# Altium footprint library TO-92_0.PcbLib: 1 footprints
Each footprint in its own frame and in the unit in brackets; x right, y up, seen from the top. Pads: shape width x height; smd on the part's side, far side on the other; paste and mask are expansions set on the pad; w line width, h text height; cw(c..) or ccw(c..) is an arc to the next point about the centre after c.
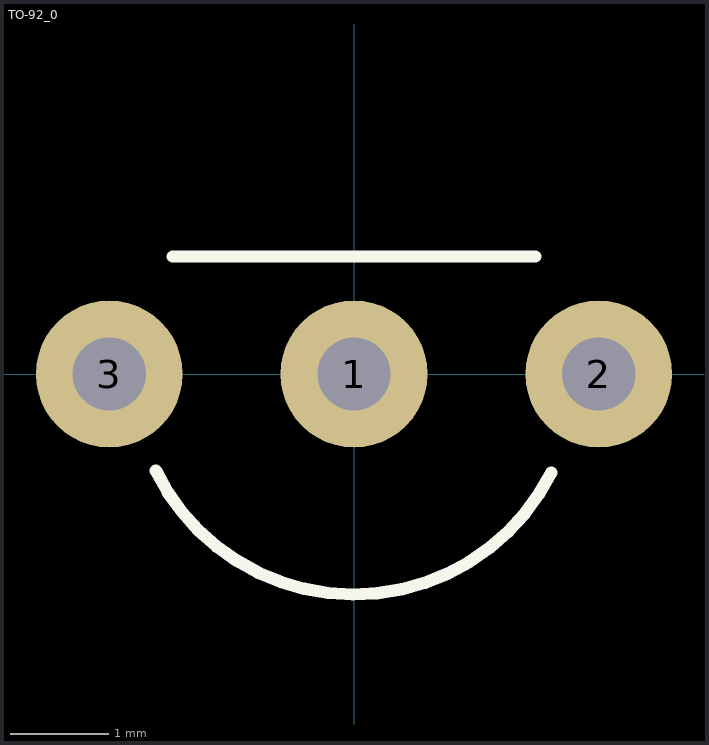
[diagram p0: the footprint, top view; thin cyan lines are the x and y axes]

## TO-92_0 [mm] "TO-92 formed leads"
pads (3):
  round 1.5 hole 0.75: 1(0,0) 2(2.5,0) 3(-2.5,0)
Top Overlay:
  lines w0.127: -2.024,-0.987 ccw(c0,0) 2.014,-1.007 ; -1.85,1.2 1.85,1.2
3D body "TO-92 Formed Leads.stp": height 7.58, standoff -4, extent -2.77,-2.35 2.77,1.21